# EAGLE library part NTS0104 (library 000_ICS)
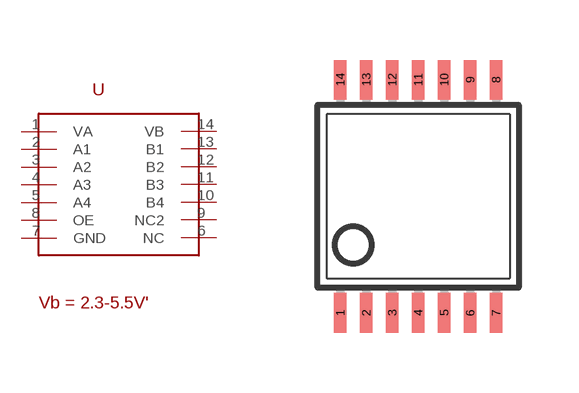
[diagram p8: symbol with the pads of TSSOP14; footprint TSSOP14]

Designator prefix U

## NTS0104PW (1PC: 0.86; DATASHEET: http://www.nxp.com/documents/data_sheet/NTS0104.pdf; DIGIKEY: 568-8382-1-ND; HEIGHT: 1; MPN: NTS0104PW,118)  [TSSOP14]
1  VA
2  A1
3  A2
4  A3
5  A4
6  NC
7  GND
8  OE
9  NC2
10  B4
11  B3
12  B2
13  B1
14  VB

## Footprint TSSOP14 (pad centres in mm)
Thin Shrink Small Outline Plastic 14 MAX3223-MAX3243.pdf
smd 0.305 x 0.991: 1 -1.95,-2.918; 2 -1.3,-2.918; 3 -0.65,-2.918; 4 0,-2.918; 5 0.65,-2.918; 6 1.3,-2.918; 7 1.95,-2.918; 8 1.95,2.918; 9 1.3,2.918; 10 0.65,2.918; 11 0,2.918; 12 -0.65,2.918; 13 -1.3,2.918; 14 -1.95,2.918